# Altium footprint library SOP65P490X110-8L30N.PcbLib: 1 footprints
Each footprint in its own frame and in the unit in brackets; x right, y up, seen from the top. Pads: shape width x height; smd on the part's side, far side on the other; paste and mask are expansions set on the pad; w line width, h text height; cw(c..) or ccw(c..) is an arc to the next point about the centre after c.
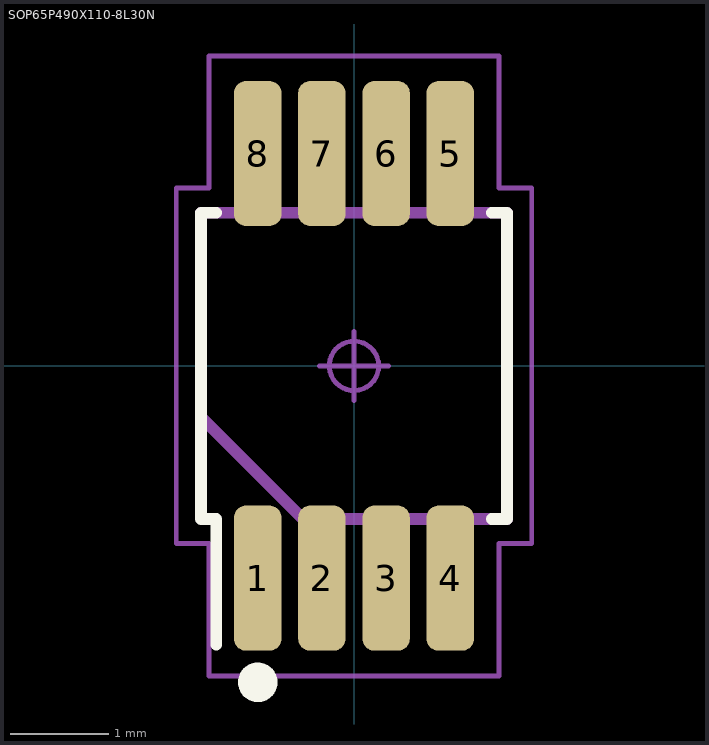
[diagram p0: the footprint, top view; thin cyan lines are the x and y axes]

## SOP65P490X110-8L30N [mm] "Small Outline Pkg (SOP), 0.65 mm pitch; 8 pin, 3.00 mm L X 3.00 mm W X 1.10 mm H body"
height 1.1
pads (8):
  rrect50% 0.48x1.47 smd: 1(-0.975,-2.15) 2(-0.325,-2.15) 3(0.325,-2.15) 4(0.975,-2.15) 5(0.975,2.15) 6(0.325,2.15) 7(-0.325,2.15) 8(-0.975,2.15)
Top Overlay:
  circle w0.2: c-0.975,-3.205 r0.1
  lines w0.12: -1.395,-2.825 -1.395,-1.55 -1.55,-1.55 -1.55,1.55 -1.395,1.55 ; 1.395,-1.55 1.55,-1.55 1.55,1.55 1.395,1.55
Mechanical 11:
  lines w0.12: -1.55,-0.517 -0.517,-1.55 1.55,-1.55 1.55,1.55 -1.55,1.55 -1.55,-0.517
Mechanical 15:
  circle w0.05: c0,0 r0.25
  lines w0.05: -0.35,0 0.35,0 ; 0,-0.35 0,0.35 ; -1.8,-1.8 -1.47,-1.8 -1.47,-3.14 1.47,-3.14 1.47,-1.8 1.8,-1.8 1.8,1.8 1.47,1.8 1.47,3.14 -1.47,3.14 -1.47,1.8 -1.8,1.8 -1.8,-1.8
3D body: height 1.1, standoff 0, extent -1.5,-2.54 1.5,2.379